# Altium schematic symbol library UA78M05CKVURG3.SchLib: 2 symbols
Pins are listed as number, name and electrical type; pins without a type are passive.

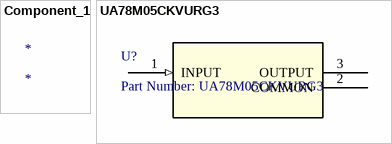
[diagram p0: symbols Component_1 to UA78M05CKVURG3]

## Component_1
designator *

## UA78M05CKVURG3
designator U?, comment Part Number: UA78M05CKVURG3
No Description Available; Vendor: Texas Instruments; Built_By: EMA_UL_Team; Manufacturer_Part_Number: UA78M05CKVURG3; Manufacturer: Texas Instruments; Copyright: Copyright (C) 2018 Accelerated Designs. All rights reserved; RefDes: RefDes; Type: DEV; Value: Value
footprint KVU3
pins: 1 INPUT (in), 2 COMMON (power), 3 OUTPUT (power)